# EAGLE library part IR2112SPBF (library International_Rectifier_By_element14_Batch_1)
HIGH AND LOW SIDE DRIVER
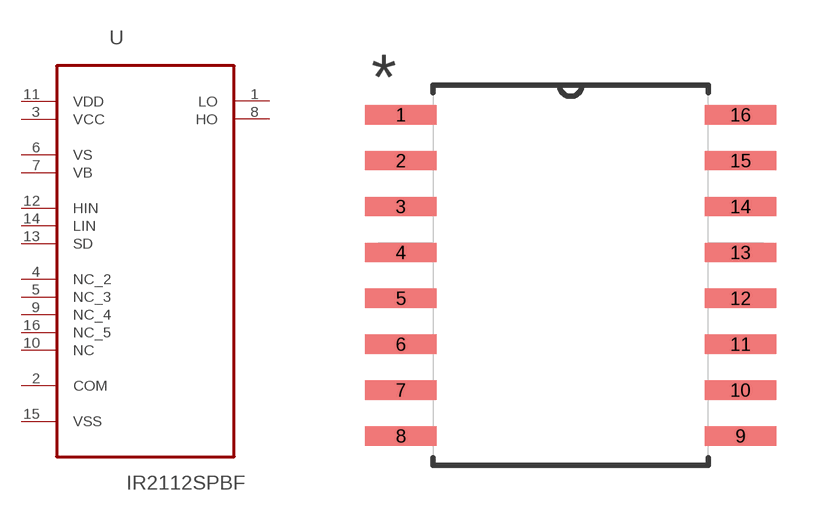
[diagram p50: symbol with the pads of SOIC127P1030X265-16N; footprint SOIC127P1030X265-16N]

Designator prefix U

## IR2112SPBF (MPN: IR2112SPBF; OC_FARNELL: 8638870; OC_NEWARK: 63J7864; PACKAGE: SOIC-16; SUPPLIER: International Rectifier)  [SOIC127P1030X265-16N]
1  LO  out
2  COM  pas
3  VCC  pwr
4  NC_2  nc
5  NC_3  nc
6  VS  pwr
7  VB  pwr
8  HO  out
9  NC_4  nc
10  NC  nc
11  VDD  pwr
12  HIN  in
13  SD  in
14  LIN  in
15  VSS  pas
16  NC_5  nc

## Footprint SOIC127P1030X265-16N (pad centres in mm)
smd 1.981 x 0.533: 1 -4.699,4.445; 2 -4.699,3.175; 3 -4.699,1.905; 4 -4.699,0.635; 5 -4.699,-0.635; 6 -4.699,-1.905; 7 -4.699,-3.175; 8 -4.699,-4.445; 9 4.699,-4.445; 10 4.699,-3.175; 11 4.699,-1.905; 12 4.699,-0.635; 13 4.699,0.635; 14 4.699,1.905; 15 4.699,3.175; 16 4.699,4.445